# EAGLE library part USB_A_MALE (library micro_switch)
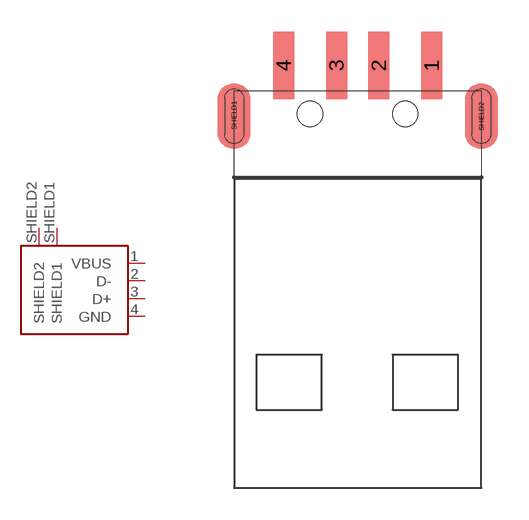
[diagram p0: symbol with the pads of USB_A_MALE_SMD; footprint USB_A_MALE_SMD]

Designator prefix CON

## USB_A_MALESMD  [USB_A_MALE_SMD]
1  VBUS  pwr
2  D-
3  D+
4  GND  pwr
SHIELD1  SHIELD1  pas
SHIELD2  SHIELD2  pas

## Footprint USB_A_MALE_SMD (pad centres in mm)
smd 1 x 3.2: 1 5.75,2.3; 2 3.25,2.3; 3 1.25,2.3; 4 -1.25,2.3
smd 0.635 x 1.27: SHIELD1 -3.6,-0.05; SHIELD2 8.1,-0.1
hole 1.2 at 0,0
hole 1.2 at 4.5,0